# EAGLE library part FRIEND (library U-AVR)
used for serial interfaces and serial bootloaders optiboot does not read the fuse but reports as they should be. It also erases chip. avrdude -c arduino -v -p atmega328p -P /dev/ttyUSB0 -b 115200 -U flash:w:BlinkLED.hex xboot use -e to erase chip, and -u to disable fuse checks since bootloaders can't see them. avrdude -c avr109 -v -p atmega1284p -P /dev/ttyUSB0 -b 115200 -e -u -U flash:w:BlinkLED.hex Arduino uses the nRTS (or nDTR) negative going edge to start the bootloader by causing a reset on the MCU.
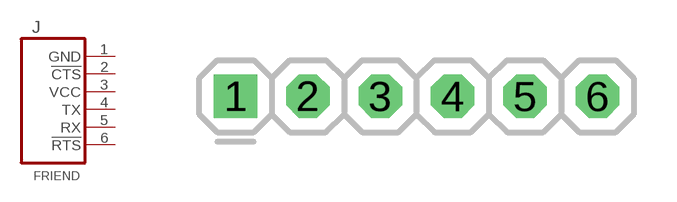
[diagram p15: symbol with the pads of FRIEND; footprint FRIEND]

Designator prefix J

## FRIEND  [FRIEND]
1  GND
2  !CTS
3  VCC
4  TX
5  RX
6  !RTS

## Footprint FRIEND (pad centres in mm)
drill 1.016 square: 1 0,0
drill 1.016 octagon: 2 2.54,0; 3 5.08,0; 4 7.62,0; 5 10.16,0; 6 12.7,0